# Altium schematic symbol library HEADER_2x3.Schlib: 1 symbol
Pins are listed as number, name and electrical type; pins without a type are passive.

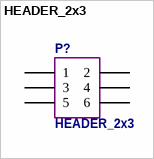
[diagram p0: symbol HEADER_2x3]

## HEADER_2x3
designator P?
Header, 3-Pin, Dual row
pins: 1, 2, 3, 4, 5, 6